# Altium integrated library IR Discrete MOSFET - Power.IntLib: 869 symbols (part 14 of 14)
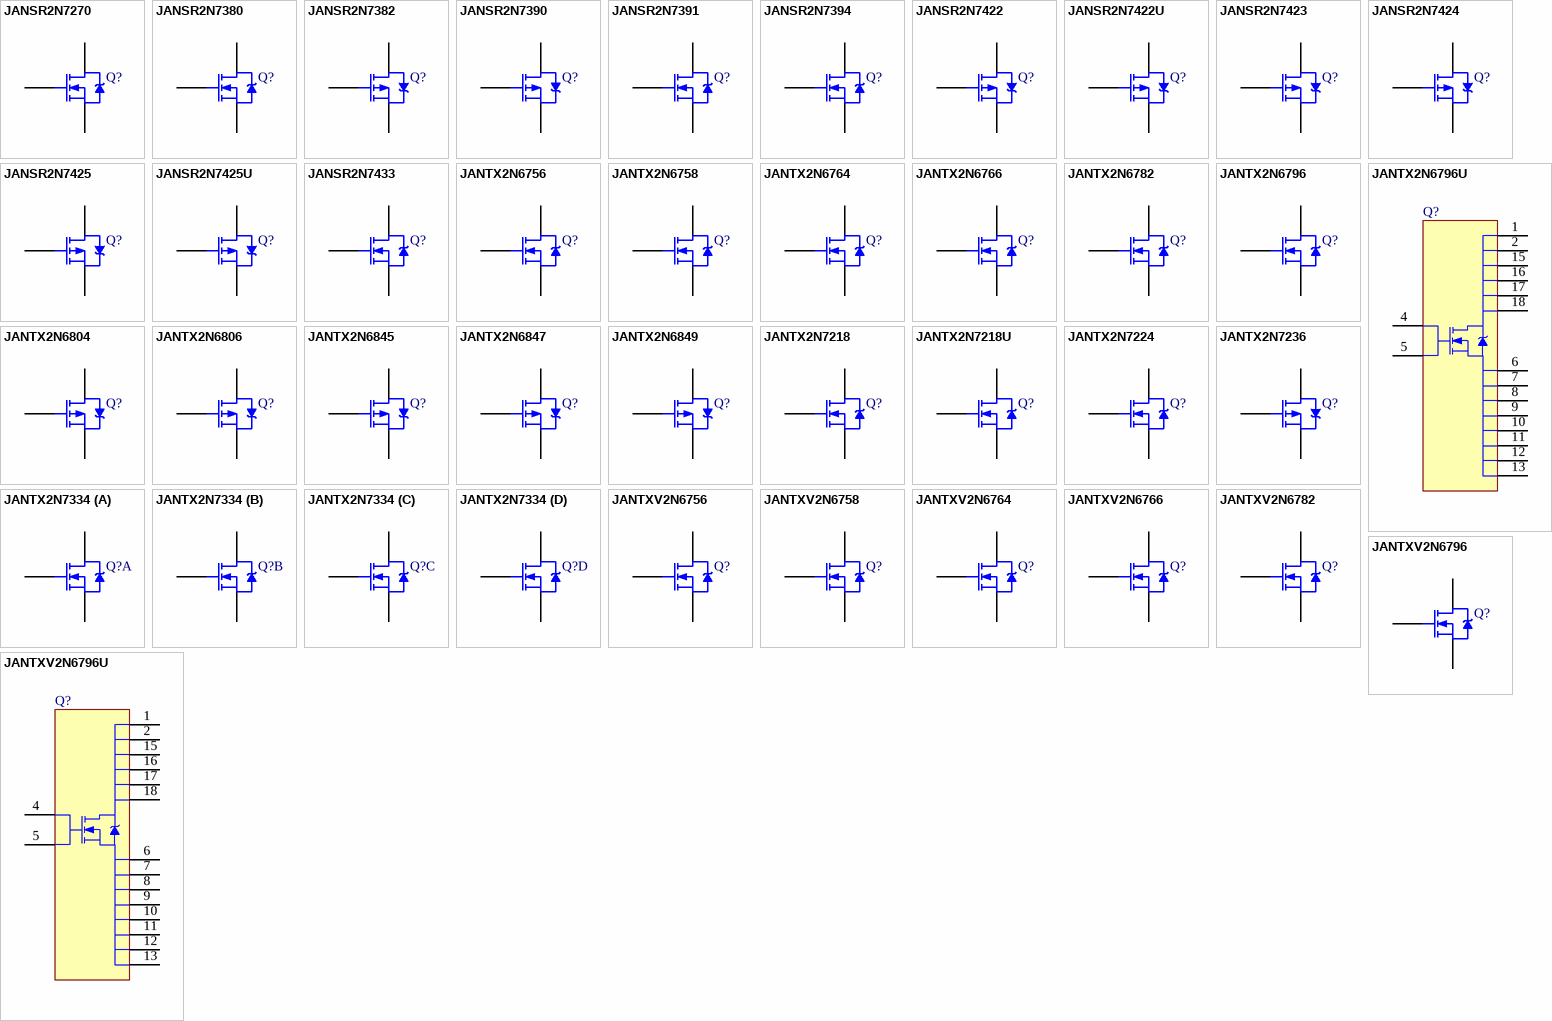
[diagram p36: symbols JANSR2N7270 to JANTXV2N6796U]

## JANTX2N6764
designator Q?
Repetitive Avalanche and dv/dt Rated HEXFET Transistor; Published: 17-Sep-2003; DatasheetVersion: 21-Aug-2001; PackageReference: TO-204AE; Publisher: Altium Limited; PackageDescription: Oval Flange Mount with (2) Offset Leads; Pin Spacing 10.92 mm; Lead Dia. 1.57 mm (max); Code_JEDEC: TO-204AE; ComponentLink1Description: Manufacturer Link; ComponentLink1URL: http://www.irf.com/; ComponentLink2Description: Datasheet; ComponentLink2URL: http://www.irf.com/product-info/datasheets/data/jantx2n6764.pdf
footprint TO-204AE (Oval Flange Mount with (2) Offset Leads; Pin Spacing 10.92 mm; Lead Dia. 1.57 mm (max))
pins: 1 S, 2 G, 3 D

## JANTX2N6766
designator Q?
Repetitive Avalanche and dv/dt Rated HEXFET Transistor; Published: 17-Sep-2003; DatasheetVersion: 22-Jan-2001; PackageReference: TO-204AE; Publisher: Altium Limited; PackageDescription: Oval Flange Mount with (2) Offset Leads; Pin Spacing 10.92 mm; Lead Dia. 1.57 mm (max); Code_JEDEC: TO-204AE; ComponentLink1Description: Manufacturer Link; ComponentLink1URL: http://www.irf.com/; ComponentLink2Description: Datasheet; ComponentLink2URL: http://www.irf.com/product-info/datasheets/data/jantx2n6766.pdf
footprint TO-204AE (Oval Flange Mount with (2) Offset Leads; Pin Spacing 10.92 mm; Lead Dia. 1.57 mm (max))
pins: 1 S, 2 G, 3 D

## JANTX2N6782
designator Q?
Repetitive Avalanche and dv/dt Rated HEXFET Transistor; Published: 17-Sep-2003; DatasheetVersion: 22-Jan-2001; PackageVersion: Feb-2001; PackageReference: TO-205AF; Publisher: Altium Limited; PackageDescription: Can; 3 Leads; Pin Circle Dia. 5.08 mm; Lead Dia. 0.48 mm (max); Code_JEDEC: TO-205-AF; ComponentLink1Description: Manufacturer Link; ComponentLink1URL: http://www.irf.com/; ComponentLink2Description: Datasheet; ComponentLink2URL: http://www.irf.com/product-info/datasheets/data/JANTX2N6782.pdf
footprint TO-205AF (Can; 3 Leads; Pin Circle Dia. 5.08 mm; Lead Dia. 0.48 mm (max))
simulation model JANTX2N6782 (SUBCKT)
pins: 1 S, 2 G, 3 D

## JANTX2N6796
designator Q?
Repetitive Avalanche and dv/dt Rated HEXFET Transistor; Published: 17-Sep-2003; DatasheetVersion: 22-Jan-2001; PackageVersion: Feb-2001; PackageReference: TO-205AF; Publisher: Altium Limited; PackageDescription: Can; 3 Leads; Pin Circle Dia. 5.08 mm; Lead Dia. 0.48 mm (max); Code_JEDEC: TO-205-AF; ComponentLink1Description: Manufacturer Link; ComponentLink1URL: http://www.irf.com/; ComponentLink2Description: Datasheet; ComponentLink2URL: http://www.irf.com/product-info/datasheets/data/jantx2n6796.pdf
footprint TO-205AF (Can; 3 Leads; Pin Circle Dia. 5.08 mm; Lead Dia. 0.48 mm (max))
pins: 1 S, 2 G, 3 D

## JANTX2N6796U
designator Q?
Repetitive Avalanche and dv/dt Rated HEXFET Transistor; Note: Pins 3, 14 are NC pins and are not drawn.; PCB_Layout: Connecting fill between center pad and pads 11 & 12 narrower than specified. Adjust to suit.; Published: 17-Sep-2003; DatasheetVersion: 17-Jan-2001; PackageVersion: 16-Jan-2001; PackageReference: LCC-18; Publisher: Altium Limited; PackageDescription: Leadless Chip Carrier; 18 Terminals; Body 7.3 x 9 mm; ComponentLink1Description: Manufacturer Link; ComponentLink1URL: http://www.irf.com/; ComponentLink2Description: Datasheet; ComponentLink2URL: http://www.irf.com/product-info/datasheets/data/irfe130.pdf
footprint LCC-18 (Leadless Chip Carrier; 18 Terminals; Body 7.3 x 9 mm)
pins: 1 D, 2 D, 4 G, 5 G, 6 S, 7 S, 8 S, 9 S, 10 S, 11 S, 12 S, 13 S, 15 D, 16 D, 17 D, 18 D

## JANTX2N6804
designator Q?
Repetitive Avalanche and dv/dt Rated HEXFET Transistor; Published: 17-Sep-2003; DatasheetVersion: 22-Jan-2001; PackageVersion: Dec-1997; PackageReference: TO-204AA; Publisher: Altium Limited; PackageDescription: Oval Flange Mount with (2) Offset Leads; Pin Spacing 10.92 mm; Lead Dia. 1.07 mm (max); Code_JEDEC: TO-204AA; ComponentLink1Description: Manufacturer Link; ComponentLink1URL: http://www.irf.com/; ComponentLink2Description: Datasheet; ComponentLink2URL: http://www.irf.com/product-info/datasheets/data/jantx2n6804.pdf
footprint TO-204AA (Oval Flange Mount with (2) Offset Leads; Pin Spacing 10.92 mm; Lead Dia. 1.07 mm (max))
pins: 1 S, 2 G, 3 D

## JANTX2N6806
designator Q?
Repetitive Avalanche and dv/dt Rated HEXFET Transistor; Published: 17-Sep-2003; DatasheetVersion: 22-Jan-2001; PackageVersion: Dec-1997; PackageReference: TO-204AA; Publisher: Altium Limited; PackageDescription: Oval Flange Mount with (2) Offset Leads; Pin Spacing 10.92 mm; Lead Dia. 1.07 mm (max); Code_JEDEC: TO-204AA; ComponentLink1Description: Manufacturer Link; ComponentLink1URL: http://www.irf.com/; ComponentLink2Description: Datasheet; ComponentLink2URL: http://www.irf.com/product-info/datasheets/data/jantx2n6806.pdf
footprint TO-204AA (Oval Flange Mount with (2) Offset Leads; Pin Spacing 10.92 mm; Lead Dia. 1.07 mm (max))
pins: 1 S, 2 G, 3 D

## JANTX2N6845
designator Q?
Repetitive Avalanche and dv/dt Rated HEXFET Transistor; Published: 17-Sep-2003; DatasheetVersion: 22-Jan-2001; PackageVersion: Feb-2001; PackageReference: TO-205AF; Publisher: Altium Limited; PackageDescription: Can; 3 Leads; Pin Circle Dia. 5.08 mm; Lead Dia. 0.48 mm (max); Code_JEDEC: TO-205-AF; ComponentLink1Description: Manufacturer Link; ComponentLink1URL: http://www.irf.com/; ComponentLink2Description: Datasheet; ComponentLink2URL: http://www.irf.com/product-info/datasheets/data/JANTX2N6845.pdf
footprint TO-205AF (Can; 3 Leads; Pin Circle Dia. 5.08 mm; Lead Dia. 0.48 mm (max))
simulation model JANTX2N6845 (SUBCKT)
pins: 1 S, 2 G, 3 D

## JANTX2N6847
designator Q?
Repetitive Avalanche and dv/dt Rated HEXFET Transistor; Published: 17-Sep-2003; DatasheetVersion: 22-Jan-2001; PackageVersion: Feb-2001; PackageReference: TO-205AF; Publisher: Altium Limited; PackageDescription: Can; 3 Leads; Pin Circle Dia. 5.08 mm; Lead Dia. 0.48 mm (max); Code_JEDEC: TO-205-AF; ComponentLink1Description: Manufacturer Link; ComponentLink1URL: http://www.irf.com/; ComponentLink2Description: Datasheet; ComponentLink2URL: http://www.irf.com/product-info/datasheets/data/jantx2n6847.pdf
footprint TO-205AF (Can; 3 Leads; Pin Circle Dia. 5.08 mm; Lead Dia. 0.48 mm (max))
pins: 1 S, 2 G, 3 D

## JANTX2N6849
designator Q?
Repetitive Avalanche and dv/dt Rated HEXFET Transistor; Published: 17-Sep-2003; DatasheetVersion: 20-Apr-2001; PackageVersion: Feb-2001; PackageReference: TO-205AF; Publisher: Altium Limited; PackageDescription: Can; 3 Leads; Pin Circle Dia. 5.08 mm; Lead Dia. 0.48 mm (max); Code_JEDEC: TO-205-AF; ComponentLink1Description: Manufacturer Link; ComponentLink1URL: http://www.irf.com/; ComponentLink2Description: Datasheet; ComponentLink2URL: http://www.irf.com/product-info/datasheets/data/jantx2n6849.pdf
footprint TO-205AF (Can; 3 Leads; Pin Circle Dia. 5.08 mm; Lead Dia. 0.48 mm (max))
pins: 1 S, 2 G, 3 D

## JANTX2N7218
designator Q?
HEXFET Power MOSFET; Published: 17-Sep-2003; DatasheetVersion: PD-9.486C; PackageReference: TO-254AA; Publisher: Altium Limited; PackageDescription: TO, Thru-Hole, Vertical, Heatsink Mounted; 3 In-Line Leads; Pitch 3.81 mm; Code_JEDEC: TO-254-AA; ComponentLink1Description: Manufacturer Link; ComponentLink1URL: http://www.irf.com/; ComponentLink2Description: Datasheet; ComponentLink2URL: http://www.irf.com/product-info/datasheets/data/irfm140.pdf
footprint TO-254AA (TO, Thru-Hole, Vertical, Heatsink Mounted; 3 In-Line Leads; Pitch 3.81 mm)
pins: 1 D, 2 S, 3 G

## JANTX2N7218U
designator Q?
HEXFET Power MOSFET; Published: 17-Sep-2003; LatestRevisionDate: 04-Jan-2011; LatestRevisionNote: PCB pads 2 & 3 swapped.; DatasheetVersion: 28-Jan-2002; PackageVersion: Jan-2003; PackageReference: SMD-1; Publisher: Altium Limited; PackageDescription: SM; 3 Leadless Terminals; Body 15.88 x 11.43 x 3.58 mm (LxWxH); ComponentLink1Description: Manufacturer Link; ComponentLink1URL: http://www.irf.com/; ComponentLink2Description: Datasheet; ComponentLink2URL: http://www.irf.com/product-info/datasheets/data/IRFN140.pdf
footprint SMD-1 (SM; 3 Leadless Terminals; Body 15.88 x 11.43 x 3.58 mm (LxWxH))
pins: 1 D, 2 G, 3 S

## JANTX2N7224
designator Q?
HEXFET Power MOSFET; Published: 17-Sep-2003; DatasheetVersion: PD-9.487C; PackageReference: TO-254AA; Publisher: Altium Limited; PackageDescription: TO, Thru-Hole, Vertical, Heatsink Mounted; 3 In-Line Leads; Pitch 3.81 mm; Code_JEDEC: TO-254-AA; ComponentLink1Description: Manufacturer Link; ComponentLink1URL: http://www.irf.com/
footprint TO-254AA (TO, Thru-Hole, Vertical, Heatsink Mounted; 3 In-Line Leads; Pitch 3.81 mm)
pins: 1 D, 2 S, 3 G

## JANTX2N7236
designator Q?
HEXFET Power MOSFET; Published: 17-Sep-2003; DatasheetVersion: 5-Feb-2002; PackageReference: TO-254AA; Publisher: Altium Limited; PackageDescription: TO, Thru-Hole, Vertical, Heatsink Mounted; 3 In-Line Leads; Pitch 3.81 mm; Code_JEDEC: TO-254-AA; ComponentLink1Description: Manufacturer Link; ComponentLink1URL: http://www.irf.com/; ComponentLink2Description: Datasheet; ComponentLink2URL: http://www.irf.com/product-info/datasheets/data/IRFM9140.pdf
footprint TO-254AA (TO, Thru-Hole, Vertical, Heatsink Mounted; 3 In-Line Leads; Pitch 3.81 mm)
pins: 1 D, 2 S, 3 G

## JANTX2N7334
designator Q?
HEXFET Power MOSFET; Note: Pins 4, 11 are NC pins and are not drawn.; Published: 17-Sep-2003; DatasheetVersion: 16-Apr-2002; PackageVersion: Jul-2001; PackageReference: MO-036AB; Publisher: Altium Limited; PackageDescription: DIP, 14-Pin, Skinny Dual In-line Package, 300mil Wide, Pitch 2.54 mm; Code_JEDEC: MO-036AB; ComponentLink1Description: Manufacturer Link; ComponentLink1URL: http://www.irf.com/; ComponentLink2Description: Datasheet; ComponentLink2URL: http://www.irf.com/product-info/datasheets/data/IRFPS40N50L.pdf
footprint MO-036AB (DIP, 14-Leads, Row Spacing 7.62mm, Pitch 2.54mm, Body 19x7.43mm)
part A pins: 1 D, 2 S, 3 G
part B pins: 5 G, 6 S, 7 D
part C pins: 8 D, 9 S, 10 G
part D pins: 12 G, 13 S, 14 D

## JANTXV2N6756
designator Q?
Repetitive Avalanche and dv/dt Rated HEXFET Transistor; Published: 17-Sep-2003; DatasheetVersion: 22-Jan-2001; PackageVersion: Dec-1997; PackageReference: TO-204AA; Publisher: Altium Limited; PackageDescription: Oval Flange Mount with (2) Offset Leads; Pin Spacing 10.92 mm; Lead Dia. 1.07 mm (max); Code_JEDEC: TO-204AA; ComponentLink1Description: Manufacturer Link; ComponentLink1URL: http://www.irf.com/; ComponentLink2Description: Datasheet; ComponentLink2URL: http://www.irf.com/product-info/datasheets/data/jantx2n6756.pdf
footprint TO-204AA (Oval Flange Mount with (2) Offset Leads; Pin Spacing 10.92 mm; Lead Dia. 1.07 mm (max))
pins: 1 S, 2 G, 3 D

## JANTXV2N6758
designator Q?
Repetitive Avalanche and dv/dt Rated HEXFET Transistor; Published: 17-Sep-2003; DatasheetVersion: 24-Jan-2001; PackageVersion: Dec-1997; PackageReference: TO-204AA; Publisher: Altium Limited; PackageDescription: Oval Flange Mount with (2) Offset Leads; Pin Spacing 10.92 mm; Lead Dia. 1.07 mm (max); Code_JEDEC: TO-204AA; ComponentLink1Description: Manufacturer Link; ComponentLink1URL: http://www.irf.com/; ComponentLink2Description: Datasheet; ComponentLink2URL: http://www.irf.com/product-info/datasheets/data/jantx2n6758.pdf
footprint TO-204AA (Oval Flange Mount with (2) Offset Leads; Pin Spacing 10.92 mm; Lead Dia. 1.07 mm (max))
pins: 1 S, 2 G, 3 D

## JANTXV2N6764
designator Q?
Repetitive Avalanche and dv/dt Rated HEXFET Transistor; Published: 17-Sep-2003; DatasheetVersion: 21-Aug-2001; PackageReference: TO-204AE; Publisher: Altium Limited; PackageDescription: Oval Flange Mount with (2) Offset Leads; Pin Spacing 10.92 mm; Lead Dia. 1.57 mm (max); Code_JEDEC: TO-204AE; ComponentLink1Description: Manufacturer Link; ComponentLink1URL: http://www.irf.com/; ComponentLink2Description: Datasheet; ComponentLink2URL: http://www.irf.com/product-info/datasheets/data/jantx2n6764.pdf
footprint TO-204AE (Oval Flange Mount with (2) Offset Leads; Pin Spacing 10.92 mm; Lead Dia. 1.57 mm (max))
pins: 1 S, 2 G, 3 D

## JANTXV2N6766
designator Q?
Repetitive Avalanche and dv/dt Rated HEXFET Transistor; Published: 17-Sep-2003; DatasheetVersion: 22-Jan-2001; PackageReference: TO-204AE; Publisher: Altium Limited; PackageDescription: Oval Flange Mount with (2) Offset Leads; Pin Spacing 10.92 mm; Lead Dia. 1.57 mm (max); Code_JEDEC: TO-204AE; ComponentLink1Description: Manufacturer Link; ComponentLink1URL: http://www.irf.com/; ComponentLink2Description: Datasheet; ComponentLink2URL: http://www.irf.com/product-info/datasheets/data/jantx2n6766.pdf
footprint TO-204AE (Oval Flange Mount with (2) Offset Leads; Pin Spacing 10.92 mm; Lead Dia. 1.57 mm (max))
pins: 1 S, 2 G, 3 D

## JANTXV2N6782
designator Q?
Repetitive Avalanche and dv/dt Rated HEXFET Transistor; Published: 17-Sep-2003; DatasheetVersion: 22-Jan-2001; PackageVersion: Feb-2001; PackageReference: TO-205AF; Publisher: Altium Limited; PackageDescription: Can; 3 Leads; Pin Circle Dia. 5.08 mm; Lead Dia. 0.48 mm (max); Code_JEDEC: TO-205-AF; ComponentLink1Description: Manufacturer Link; ComponentLink1URL: http://www.irf.com/; ComponentLink2Description: Datasheet; ComponentLink2URL: http://www.irf.com/product-info/datasheets/data/JANTX2N6782.pdf
footprint TO-205AF (Can; 3 Leads; Pin Circle Dia. 5.08 mm; Lead Dia. 0.48 mm (max))
pins: 1 S, 2 G, 3 D

## JANTXV2N6796
designator Q?
Repetitive Avalanche and dv/dt Rated HEXFET Transistor; Published: 17-Sep-2003; DatasheetVersion: 22-Jan-2001; PackageVersion: Feb-2001; PackageReference: TO-205AF; Publisher: Altium Limited; PackageDescription: Can; 3 Leads; Pin Circle Dia. 5.08 mm; Lead Dia. 0.48 mm (max); Code_JEDEC: TO-205-AF; ComponentLink1Description: Manufacturer Link; ComponentLink1URL: http://www.irf.com/; ComponentLink2Description: Datasheet; ComponentLink2URL: http://www.irf.com/product-info/datasheets/data/jantx2n6796.pdf
footprint TO-205AF (Can; 3 Leads; Pin Circle Dia. 5.08 mm; Lead Dia. 0.48 mm (max))
pins: 1 S, 2 G, 3 D

## JANTXV2N6796U
designator Q?
Repetitive Avalanche and dv/dt Rated HEXFET Transistor; Note: Pins 3, 14 are NC pins and are not drawn.; PCB_Layout: Connecting fill between center pad and pads 11 & 12 narrower than specified. Adjust to suit.; Published: 17-Sep-2003; DatasheetVersion: 17-Jan-2001; PackageVersion: 16-Jan-2001; PackageReference: LCC-18; Publisher: Altium Limited; PackageDescription: Leadless Chip Carrier; 18 Terminals; Body 7.3 x 9 mm; ComponentLink1Description: Manufacturer Link; ComponentLink1URL: http://www.irf.com/; ComponentLink2Description: Datasheet; ComponentLink2URL: http://www.irf.com/product-info/datasheets/data/irfe130.pdf
footprint LCC-18 (Leadless Chip Carrier; 18 Terminals; Body 7.3 x 9 mm)
pins: 1 D, 2 D, 4 G, 5 G, 6 S, 7 S, 8 S, 9 S, 10 S, 11 S, 12 S, 13 S, 15 D, 16 D, 17 D, 18 D

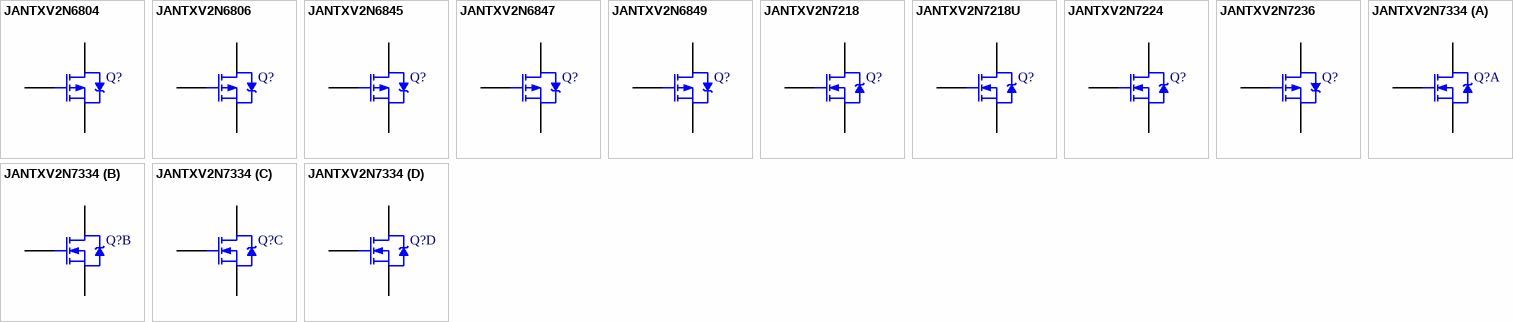
[diagram p23: symbols JANTXV2N6804 to JANTXV2N7334]

## JANTXV2N6804
designator Q?
Repetitive Avalanche and dv/dt Rated HEXFET Transistor; Published: 17-Sep-2003; DatasheetVersion: 22-Jan-2001; PackageVersion: Dec-1997; PackageReference: TO-204AA; Publisher: Altium Limited; PackageDescription: Oval Flange Mount with (2) Offset Leads; Pin Spacing 10.92 mm; Lead Dia. 1.07 mm (max); Code_JEDEC: TO-204AA; ComponentLink1Description: Manufacturer Link; ComponentLink1URL: http://www.irf.com/; ComponentLink2Description: Datasheet; ComponentLink2URL: http://www.irf.com/product-info/datasheets/data/jantx2n6804.pdf
footprint TO-204AA (Oval Flange Mount with (2) Offset Leads; Pin Spacing 10.92 mm; Lead Dia. 1.07 mm (max))
pins: 1 S, 2 G, 3 D

## JANTXV2N6806
designator Q?
Repetitive Avalanche and dv/dt Rated HEXFET Transistor; Published: 17-Sep-2003; DatasheetVersion: 22-Jan-2001; PackageVersion: Dec-1997; PackageReference: TO-204AA; Publisher: Altium Limited; PackageDescription: Oval Flange Mount with (2) Offset Leads; Pin Spacing 10.92 mm; Lead Dia. 1.07 mm (max); Code_JEDEC: TO-204AA; ComponentLink1Description: Manufacturer Link; ComponentLink1URL: http://www.irf.com/; ComponentLink2Description: Datasheet; ComponentLink2URL: http://www.irf.com/product-info/datasheets/data/jantx2n6806.pdf
footprint TO-204AA (Oval Flange Mount with (2) Offset Leads; Pin Spacing 10.92 mm; Lead Dia. 1.07 mm (max))
pins: 1 S, 2 G, 3 D

## JANTXV2N6845
designator Q?
Repetitive Avalanche and dv/dt Rated HEXFET Transistor; Published: 17-Sep-2003; DatasheetVersion: 22-Jan-2001; PackageVersion: Feb-2001; PackageReference: TO-205AF; Publisher: Altium Limited; PackageDescription: Can; 3 Leads; Pin Circle Dia. 5.08 mm; Lead Dia. 0.48 mm (max); Code_JEDEC: TO-205-AF; ComponentLink1Description: Manufacturer Link; ComponentLink1URL: http://www.irf.com/; ComponentLink2Description: Datasheet; ComponentLink2URL: http://www.irf.com/product-info/datasheets/data/JANTX2N6845.pdf
footprint TO-205AF (Can; 3 Leads; Pin Circle Dia. 5.08 mm; Lead Dia. 0.48 mm (max))
pins: 1 S, 2 G, 3 D

## JANTXV2N6847
designator Q?
Repetitive Avalanche and dv/dt Rated HEXFET Transistor; Published: 17-Sep-2003; DatasheetVersion: 22-Jan-2001; PackageVersion: Feb-2001; PackageReference: TO-205AF; Publisher: Altium Limited; PackageDescription: Can; 3 Leads; Pin Circle Dia. 5.08 mm; Lead Dia. 0.48 mm (max); Code_JEDEC: TO-205-AF; ComponentLink1Description: Manufacturer Link; ComponentLink1URL: http://www.irf.com/; ComponentLink2Description: Datasheet; ComponentLink2URL: http://www.irf.com/product-info/datasheets/data/jantx2n6847.pdf
footprint TO-205AF (Can; 3 Leads; Pin Circle Dia. 5.08 mm; Lead Dia. 0.48 mm (max))
pins: 1 S, 2 G, 3 D

## JANTXV2N6849
designator Q?
Repetitive Avalanche and dv/dt Rated HEXFET Transistor; Published: 17-Sep-2003; DatasheetVersion: 20-Apr-2001; PackageVersion: Feb-2001; PackageReference: TO-205AF; Publisher: Altium Limited; PackageDescription: Can; 3 Leads; Pin Circle Dia. 5.08 mm; Lead Dia. 0.48 mm (max); Code_JEDEC: TO-205-AF; ComponentLink1Description: Manufacturer Link; ComponentLink1URL: http://www.irf.com/; ComponentLink2Description: Datasheet; ComponentLink2URL: http://www.irf.com/product-info/datasheets/data/jantx2n6849.pdf
footprint TO-205AF (Can; 3 Leads; Pin Circle Dia. 5.08 mm; Lead Dia. 0.48 mm (max))
pins: 1 S, 2 G, 3 D

## JANTXV2N7218
designator Q?
HEXFET Power MOSFET; Published: 17-Sep-2003; DatasheetVersion: PD-9.486C; PackageReference: TO-254AA; Publisher: Altium Limited; PackageDescription: TO, Thru-Hole, Vertical, Heatsink Mounted; 3 In-Line Leads; Pitch 3.81 mm; Code_JEDEC: TO-254-AA; ComponentLink1Description: Manufacturer Link; ComponentLink1URL: http://www.irf.com/; ComponentLink2Description: Datasheet; ComponentLink2URL: http://www.irf.com/product-info/datasheets/data/irfm140.pdf
footprint TO-254AA (TO, Thru-Hole, Vertical, Heatsink Mounted; 3 In-Line Leads; Pitch 3.81 mm)
pins: 1 D, 2 S, 3 G

## JANTXV2N7218U
designator Q?
HEXFET Power MOSFET; Published: 17-Sep-2003; LatestRevisionDate: 04-Jan-2011; LatestRevisionNote: PCB pads 2 & 3 swapped.; DatasheetVersion: 28-Jan-2002; PackageVersion: Jan-2003; PackageReference: SMD-1; Publisher: Altium Limited; PackageDescription: SM; 3 Leadless Terminals; Body 15.88 x 11.43 x 3.58 mm (LxWxH); ComponentLink1Description: Manufacturer Link; ComponentLink1URL: http://www.irf.com/; ComponentLink2Description: Datasheet; ComponentLink2URL: http://www.irf.com/product-info/datasheets/data/IRFN140.pdf
footprint SMD-1 (SM; 3 Leadless Terminals; Body 15.88 x 11.43 x 3.58 mm (LxWxH))
pins: 1 D, 2 G, 3 S

## JANTXV2N7224
designator Q?
HEXFET Power MOSFET; Published: 17-Sep-2003; DatasheetVersion: PD-9.487C; PackageReference: TO-254AA; Publisher: Altium Limited; PackageDescription: TO, Thru-Hole, Vertical, Heatsink Mounted; 3 In-Line Leads; Pitch 3.81 mm; Code_JEDEC: TO-254-AA; ComponentLink1Description: Manufacturer Link; ComponentLink1URL: http://www.irf.com/
footprint TO-254AA (TO, Thru-Hole, Vertical, Heatsink Mounted; 3 In-Line Leads; Pitch 3.81 mm)
pins: 1 D, 2 S, 3 G

## JANTXV2N7236
designator Q?
HEXFET Power MOSFET; Published: 17-Sep-2003; DatasheetVersion: 5-Feb-2002; PackageReference: TO-254AA; Publisher: Altium Limited; PackageDescription: TO, Thru-Hole, Vertical, Heatsink Mounted; 3 In-Line Leads; Pitch 3.81 mm; Code_JEDEC: TO-254-AA; ComponentLink1Description: Manufacturer Link; ComponentLink1URL: http://www.irf.com/; ComponentLink2Description: Datasheet; ComponentLink2URL: http://www.irf.com/product-info/datasheets/data/IRFM9140.pdf
footprint TO-254AA (TO, Thru-Hole, Vertical, Heatsink Mounted; 3 In-Line Leads; Pitch 3.81 mm)
pins: 1 D, 2 S, 3 G

## JANTXV2N7334
designator Q?
HEXFET Power MOSFET; Note: Pins 4, 11 are NC pins and are not drawn.; Published: 17-Sep-2003; DatasheetVersion: 16-Apr-2002; PackageVersion: Jul-2001; PackageReference: MO-036AB; Publisher: Altium Limited; PackageDescription: DIP, 14-Pin, Skinny Dual In-line Package, 300mil Wide, Pitch 2.54 mm; Code_JEDEC: MO-036AB; ComponentLink1Description: Manufacturer Link; ComponentLink1URL: http://www.irf.com/; ComponentLink2Description: Datasheet; ComponentLink2URL: http://www.irf.com/product-info/datasheets/data/IRFPS43N50K.pdf
footprint MO-036AB (DIP, 14-Leads, Row Spacing 7.62mm, Pitch 2.54mm, Body 19x7.43mm)
part A pins: 1 D, 2 S, 3 G
part B pins: 5 G, 6 S, 7 D
part C pins: 8 D, 9 S, 10 G
part D pins: 12 G, 13 S, 14 D